# Altium schematic symbol library TF-021B-H265.SchLib: 1 symbol
Pins are listed as number, name and electrical type; pins without a type are passive.

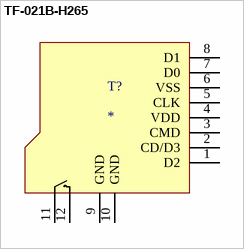
[diagram p0: symbol TF-021B-H265]

## TF-021B-H265
designator T?
pins: 1 D2, 2 CD/D3, 3 CMD, 4 VDD, 5 CLK, 6 VSS, 7 D0, 8 D1, 9 GND, 10 GND, 11, 12